# EAGLE library part HEADER-2X6P (library arno)
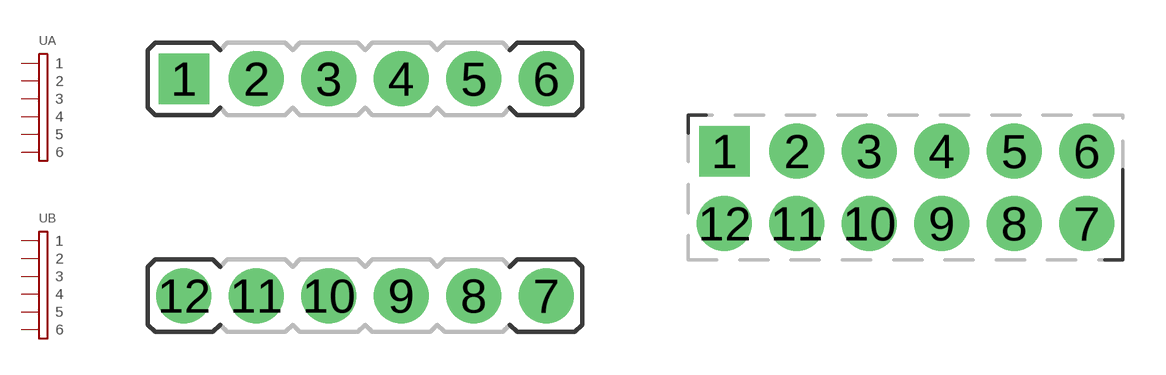
[diagram p13: symbol with the pads of PIN_HEADER-MALE-2X6P-2S; footprints PIN_HEADER-MALE-2X6P-2S, PIN-HEADER-FEMALE-2X6P]

Designator prefix -; gates A=HEADER-6P B=HEADER-6P

## HEADER-2X6P-M-2S  [PIN_HEADER-MALE-2X6P-2S]
1  A:1
2  A:2
3  A:3
4  A:4
5  A:5
6  A:6
7  B:1
8  B:2
9  B:3
10  B:4
11  B:5
12  B:6

## HEADER-2X6P-F  [PIN-HEADER-FEMALE-2X6P]
Pads as for PIN_HEADER-MALE-2X6P-2S

## Footprint PIN_HEADER-MALE-2X6P-2S (pad centres in mm)
drill 1.016 pad 1.778 square: 1 -6.35,0
drill 1.016 pad 1.93: 2 -3.81,0; 3 -1.27,0; 4 1.27,0; 5 3.81,0; 6 6.35,0; 7 6.35,-7.62; 8 3.81,-7.62; 9 1.27,-7.62; 10 -1.27,-7.62; 11 -3.81,-7.62; 12 -6.35,-7.62

## Footprint PIN-HEADER-FEMALE-2X6P (pad centres in mm)
drill 1.016 pad 1.778 square: 1 -3.81,0
drill 1.016 pad 1.93: 2 -1.27,0; 3 1.27,0; 4 3.81,0; 5 6.35,0; 6 8.89,0; 7 8.89,-2.54; 8 6.35,-2.54; 9 3.81,-2.54; 10 1.27,-2.54; 11 -1.27,-2.54; 12 -3.81,-2.54